# Altium schematic symbol library TE_2201778-1.SchLib: 1 symbol
Pins are listed as number, name and electrical type; pins without a type are passive.

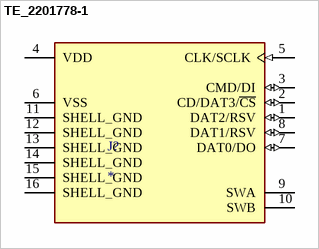
[diagram p0: symbol TE_2201778-1]

## TE_2201778-1
designator J?
MP: 2201778-1; Package: None; Price: None; Value: *; Availability: Unavailable
footprint TE_2201778-1
pins: 1 DAT2/RSV (io), 2 CD/DAT3/~{CS} (io), 3 CMD/DI (io), 4 VDD (power), 5 CLK/SCLK (in), 6 VSS (power), 7 DAT0/DO (io), 8 DAT1/RSV (io), 9 SWA, 10 SWB, 11 SHELL_GND (power), 12 SHELL_GND (power), 13 SHELL_GND (power), 14 SHELL_GND (power), 15 SHELL_GND (power), 16 SHELL_GND (power)